# EAGLE library part J104D2C5VDC.20S (library Signal_relay)
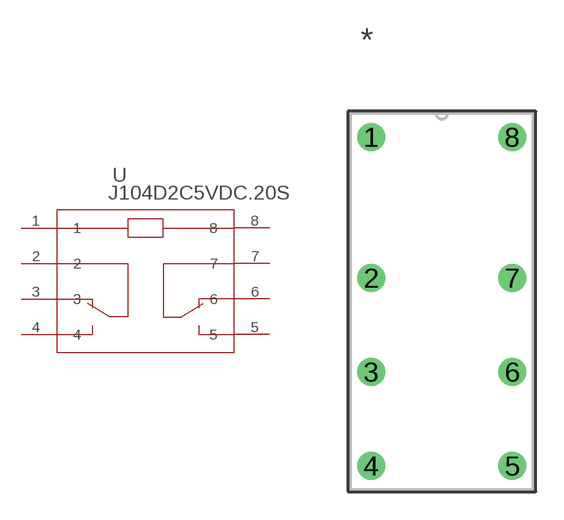
[diagram p0: symbol with the pads of RELAY8_J104D2C5VDC.20S_CRS; footprint RELAY8_J104D2C5VDC.20S_CRS]

Designator prefix U

## J104D2C5VDC.20S (COPYRIGHT: Copyright (C) 2024 Ultra Librarian. All rights reserved.; MANUFACTURER_PART_NUMBER: J104D2C5VDC.20S; MFR_NAME: CIT Relay & Switch)  [RELAY8_J104D2C5VDC.20S_CRS]
1  1  pas
2  2  pas
3  3  pas
4  4  pas
5  5  pas
6  6  pas
7  7  pas
8  8  pas

## Footprint RELAY8_J104D2C5VDC.20S_CRS (pad centres in mm)
drill 1.016 pad 1.524: 1 0,0; 2 0,-7.62; 3 0,-12.7; 4 0,-17.78; 5 7.62,-17.78; 6 7.62,-12.7; 7 7.62,-7.62; 8 7.62,0